# Altium schematic symbol library IC-MAX11615EEE+.Schlib: 1 symbol
Pins are listed as number, name and electrical type; pins without a type are passive.

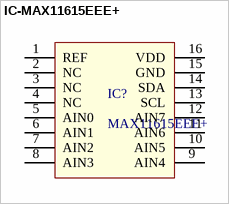
[diagram p0: symbol IC-MAX11615EEE+]

## IC-MAX11615EEE+
designator IC?, comment MAX11615EEE+
Analog to Digital Converters - ADC 12-Bit 8Ch 94.4ksps 3.6V Precision ADC
pins: 1 REF, 2 NC, 3 NC, 4 NC, 5 AIN0, 6 AIN1, 7 AIN2, 8 AIN3, 9 AIN4, 10 AIN5, 11 AIN6, 12 AIN7, 13 SCL, 14 SDA, 15 GND, 16 VDD